# Altium footprint library urover.PCBLIB: 175 footprints (part 6 of 11)
Each footprint in its own frame and in the unit in brackets; x right, y up, seen from the top. Pads: shape width x height; smd on the part's side, far side on the other; paste and mask are expansions set on the pad; w line width, h text height; cw(c..) or ccw(c..) is an arc to the next point about the centre after c.
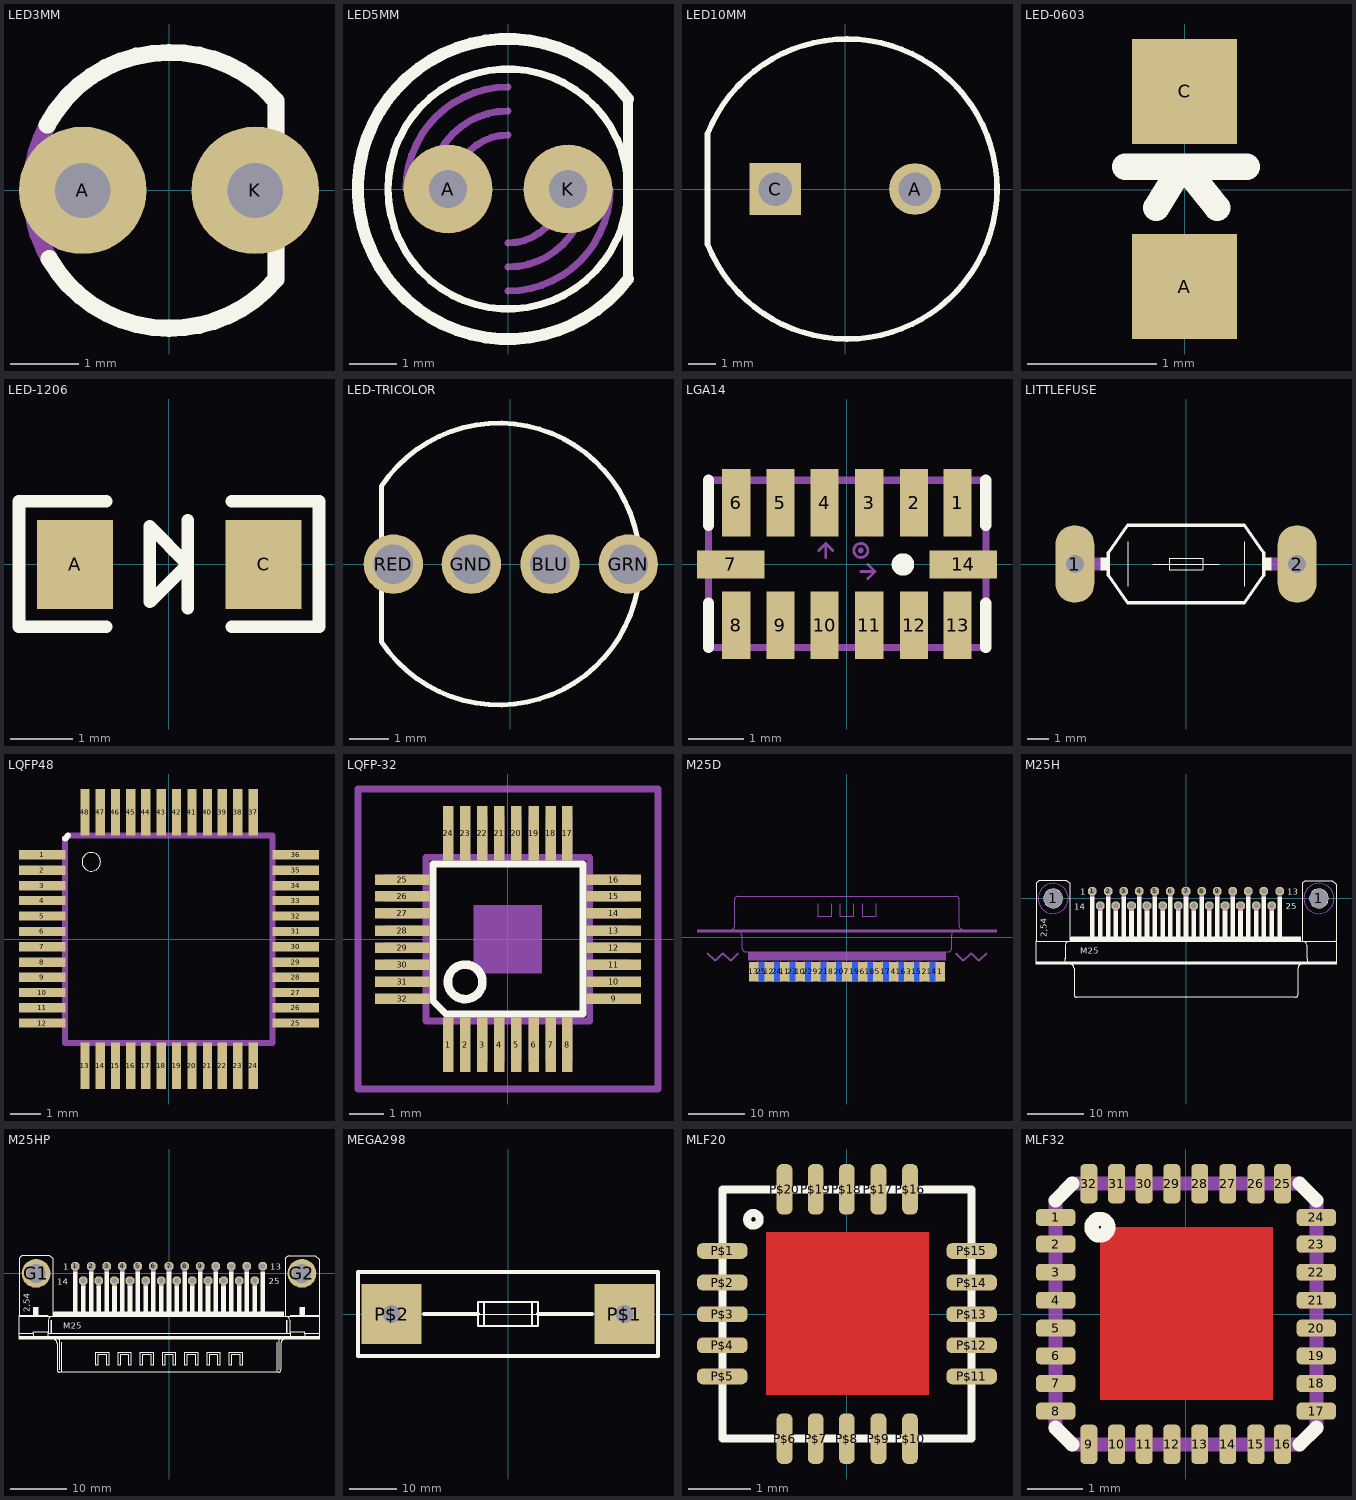
[diagram p5: the footprints below, top view; thin cyan lines are the x and y axes]

## LED3MM [mil]
pads (2):
  round 74 hole 32: A(-50,0) K(50,0)
Top Overlay:
  lines w10: -70.59,38 cw(c-0.29,0.18) 0,80 cw(c1.11,-0.19) 62,52 ; -69.46,-39.69 ccw(c0,0) 0,-80 ccw(c0.47,1) 62,-51.68 ; 62,-51 62,-33 ; 62,31 62,51
Mechanical 16:
  lines w10: -70.44,38 ccw(c0.14,0.04) -80,0 ccw(c0,0) -68.13,-41.93 ; 62,-50 62,50

## LED5MM [mil]
pads (2):
  round 74 hole 32: A(-50,0) K(50,0)
Top Overlay:
  circle w6: c0,0 r100
  lines w8: 100,-75 100,75
  lines w10: 100,-75 cw(c0,0) 100,75
Mechanical 16:
  lines w6: -85,0 cw(c0,0) 0,85 ; -65,0 cw(c0,0) 0,65 ; -45,0 cw(c0,0) 0,45 ; 0,-85 ccw(c0,0) 85,0 ; 0,-65 ccw(c0,0) 65,0 ; 0,-45 ccw(c0,0) 45,0

## LED10MM [mil]
pads (2):
  round 74 hole 48: A(100,0)
  rect 74x74 hole 48: C(-100,0)
Top Overlay:
  lines w8: -196.85,-78.74 ccw(c2.67,0.13) -196.85,79 -196.85,-78.74

## LED-0603 [mil]
pads (2):
  rect 32x32 smd: A(0,-29.53) C(0,30)
Top Overlay:
  lines w8: -18.11,7 0,7 ; -8.6,-5.51 -1,7 ; 10,-5.51 0,7 ; 19,7 0,7

## LED-1206 [mil]
pads (2):
  rect 48x56 smd: A(-59.06,0) C(60,0)
Top Overlay:
  lines w8: -39.37,-39.37 -94.49,-39.37 -94.49,40 -39.37,40 ; 12,-27.56 12,0 ; 12,28 12,0 ; 40,-39.37 95,-39.37 95,40 40,40 ; 12,0 -11.81,24 -11.81,-23.62 12,0

## LED-TRICOLOR [mil]
pads (4):
  round 60 hole 40: BLU(40,0) GND(-39.37,0) GRN(119,0) RED(-118.11,0)
Top Overlay:
  lines w5: -129.92,-78.74 -129.92,79 cw(c-11.62,0.13) -129.92,-78.74

## LGA14 [mil]
pads (14):
  rect 20x48 smd: 1(79,44) 2(48,44) 3(16,44) 4(-15.75,44) 5(-47.24,44) 6(-78.74,44) 8(-78.74,-43.31) 9(-47.24,-43.31) 10(-15.75,-43.31) 11(16,-43.31) 12(48,-43.31) 13(79,-43.31)
  rect 48x20 smd: 7(-82.68,0) 14(83,0)
Top Overlay:
  circle w8: c40,0 r4
  lines w8: -98.43,-59.06 -98.43,-27.56 ; -98.43,28 -98.43,60 ; 99,-59.06 99,-27.56 ; 99,28 99,60
Mechanical 16:
  circle w2: c10,10 r5
  circle w2: c10,10 r1
  lines w2: -20,10 -15,15 ; -15,5 -15,15 ; -10,10 -15,15 ; 10,-5 20,-5 ; 15,-10 20,-5 ; 15,0 20,-5
  lines w5: -98.43,-59.06 -98.43,60 99,60 99,-59.06 -98.43,-59.06
  text "X" at -5,-10 h18.6
  text "Y" at -20,-10 h18.6
  text "Z" at -5,5 h18.6

## LITTLEFUSE [mil]
pads (2):
  oval 70x140 hole 32: 1(-200,0) 2(200,0)
Top Overlay:
  rectangle: 140,-12 154,12
  rectangle: -154,-12 -140,12
  lines w2: -105,-40 -105,40 ; -60,0 60,0 ; 105,-40 105,40 ; -30,-10 -30,10 30,10 30,-10 -30,-10
  lines w6: -140,-20 -140,20 -105,70 105,70 140,20 140,-20 105,-70 -105,-70 -140,-20
Mechanical 16:
  lines w24: -200,0 -155,0 ; 155,0 200,0

## LQFP48 [mil]
pads (48):
  rect 60x12 smd: 1(-163.39,109) 2(-163.39,89) 3(-163.39,69) 4(-163.39,50) 5(-163.39,30) 6(-163.39,10) 7(-163.39,-9.84) 8(-163.39,-29.53) 9(-163.39,-49.21) 10(-163.39,-68.9) 11(-163.39,-88.58) 12(-163.39,-108.27) 25(164,-108.27) 26(164,-88.58) 27(164,-68.9) 28(164,-49.21) 29(164,-29.53) 30(164,-9.84) 31(164,10) 32(164,30) 33(164,50) 34(164,69) 35(164,89) 36(164,109)
  rect 12x60 smd: 13(-108.27,-163.39) 14(-88.58,-163.39) 15(-68.9,-163.39) 16(-49.21,-163.39) 17(-29.53,-163.39) 18(-9.84,-163.39) 19(10,-163.39) 20(30,-163.39) 21(50,-163.39) 22(69,-163.39) 23(89,-163.39) 24(109,-163.39) 37(109,164) 38(89,164) 39(69,164) 40(50,164) 41(30,164) 42(10,164) 43(-9.84,164) 44(-29.53,164) 45(-49.21,164) 46(-68.9,164) 47(-88.58,164) 48(-108.27,164)
Top Overlay:
  circle w0: c-100,100 r12
  lines w8: -133.8,130 -129.92,134
Mechanical 16:
  rectangle: -177.17,104 -137.8,113
  rectangle: -177.17,85 -137.8,93
  rectangle: -177.17,65 -137.8,74
  rectangle: -177.17,45 -137.8,54
  rectangle: -177.17,26 -137.8,34
  rectangle: -177.17,6 -137.8,15
  rectangle: -177.17,-14.17 -137.8,-5.51
  rectangle: -177.17,-33.86 -137.8,-25.2
  rectangle: -177.17,-53.54 -137.8,-44.88
  rectangle: -177.17,-73.23 -137.8,-64.57
  rectangle: -177.17,-92.91 -137.8,-84.25
  rectangle: -177.17,-112.6 -137.8,-103.94
  rectangle: -112.6,-177.17 -103.94,-137.8
  rectangle: -92.91,-177.17 -84.25,-137.8
  rectangle: -73.23,-177.17 -64.57,-137.8
  rectangle: -53.54,-177.17 -44.88,-137.8
  rectangle: -33.86,-177.17 -25.2,-137.8
  rectangle: -14.17,-177.17 -5.51,-137.8
  rectangle: 6,-177.17 15,-137.8
  rectangle: 26,-177.17 34,-137.8
  rectangle: 45,-177.17 54,-137.8
  rectangle: 65,-177.17 74,-137.8
  rectangle: 85,-177.17 93,-137.8
  rectangle: 104,-177.17 113,-137.8
  rectangle: 138,-112.6 178,-103.94
  rectangle: 138,-92.91 178,-84.25
  rectangle: 138,-73.23 178,-64.57
  rectangle: 138,-53.54 178,-44.88
  rectangle: 138,-33.86 178,-25.2
  rectangle: 138,-14.17 178,-5.51
  rectangle: 138,6 178,15
  rectangle: 138,26 178,34
  rectangle: 138,45 178,54
  rectangle: 138,65 178,74
  rectangle: 138,85 178,93
  rectangle: 138,104 178,113
  rectangle: 104,138 113,178
  rectangle: 85,138 93,178
  rectangle: 65,138 74,178
  rectangle: 45,138 54,178
  rectangle: 26,138 34,178
  rectangle: 6,138 15,178
  rectangle: -14.17,138 -5.51,178
  rectangle: -33.86,138 -25.2,178
  rectangle: -53.54,138 -44.88,178
  rectangle: -73.23,138 -64.57,178
  rectangle: -92.91,138 -84.25,178
  rectangle: -112.6,138 -103.94,178
  lines w8: -133.8,130 -133.8,-133.8 134,-133.8 134,134 -129.92,134

## LQFP-32 [mil]
pads (32):
  rect 12x63 smd: 1(-68.9,-122.05) 2(-49.21,-122.05) 3(-29.53,-122.05) 4(-9.84,-122.05) 5(10,-122.05) 6(30,-122.05) 7(50,-122.05) 8(69,-122.05) 17(69,123) 18(50,123) 19(30,123) 20(10,123) 21(-9.84,123) 22(-29.53,123) 23(-49.21,123) 24(-68.9,123)
  rect 63x12 smd: 9(123,-68.9) 10(123,-49.21) 11(123,-29.53) 12(123,-9.84) 13(123,10) 14(123,30) 15(123,50) 16(123,69) 25(-122.05,69) 26(-122.05,50) 27(-122.05,30) 28(-122.05,10) 29(-122.05,-9.84) 30(-122.05,-29.53) 31(-122.05,-49.21) 32(-122.05,-68.9)
Top Overlay:
  circle w10: c-49.21,-49.21 r20
  lines w8: -86.61,-71.39 -86.61,87 87,87 87,-86.61 -71.61,-86.61 -86.61,-71.39
Mechanical 6:
  rectangle: -39.37,-39.37 40,40
Mechanical 16:
  rectangle: -74.8,-141.73 -62.99,-96.46
  rectangle: -55.12,-141.73 -43.31,-96.46
  rectangle: -35.43,-141.73 -23.62,-96.46
  rectangle: -15.75,-141.73 -3.94,-96.46
  rectangle: 4,-141.73 16,-96.46
  rectangle: 24,-141.73 36,-96.46
  rectangle: 44,-141.73 56,-96.46
  rectangle: 63,-141.73 75,-96.46
  rectangle: 97,-74.8 142,-62.99
  rectangle: 97,-55.12 142,-43.31
  rectangle: 97,-35.43 142,-23.62
  rectangle: 97,-15.75 142,-3.94
  rectangle: 97,4 142,16
  rectangle: 97,24 142,36
  rectangle: 97,44 142,56
  rectangle: 97,63 142,75
  rectangle: 63,97 75,142
  rectangle: 44,97 56,142
  rectangle: 24,97 36,142
  rectangle: 4,97 16,142
  rectangle: -15.75,97 -3.94,142
  rectangle: -35.43,97 -23.62,142
  rectangle: -55.12,97 -43.31,142
  rectangle: -74.8,97 -62.99,142
  rectangle: -141.73,63 -96.46,75
  rectangle: -141.73,44 -96.46,56
  rectangle: -141.73,24 -96.46,36
  rectangle: -141.73,4 -96.46,16
  rectangle: -141.73,-15.75 -96.46,-3.94
  rectangle: -141.73,-35.43 -96.46,-23.62
  rectangle: -141.73,-55.12 -96.46,-43.31
  rectangle: -141.73,-74.8 -96.46,-62.99
  lines w8: -94.49,-94.49 95,-94.49 95,95 -94.49,95 -94.49,-94.49
Mechanical 27:
  lines w8: -173.23,-173.23 -173.23,174 174,174 174,-173.23 -173.23,-173.23

## M25D [mil]
pads (25):
  rect 67x138 smd: 1(649,-237.98) 2(540,-237.99) 3(432,-237.98) 4(325,-237.98) 5(216,-237.98) 6(109,-237.98) 7(0,-237.99) 8(-108.01,-237.98) 9(-215.99,-237.98) 10(-324.01,-237.98) 11(-431.99,-237.98) 12(-540,-237.99) 13(-648.01,-237.98)
  rect 67x138 smd far side: 14(594,-238) 15(486,-238) 16(378,-238) 17(270,-238) 18(162,-238) 19(54,-238) 20(-54,-238) 21(-162,-238) 22(-270,-238) 23(-378,-238) 24(-486,-238) 25(-594,-238)
Mechanical 16:
  rectangle: -1043.31,36 1044,56
  rectangle: -688.98,-161.42 689,-98.43
  lines w6: -805,56 ccw(c-805,81) -780,81 -780,266 cw(c-760,266) -760,286 760,286 cw(c760,266) 780,266 780,81 ccw(c805,81) 805,56 ; -734,40 -734,20 -729,20 -729,-75 ccw(c-704,-75) -704,-100 ; -704.76,-100 705,-100 ; -200,235 -200,145 -110,145 -110,235 ; -45,235 -45,145 45,145 45,235 ; 110,235 110,145 200,145 200,235 ; 704,-100 ccw(c704,-75) 729,-75 729,20 734,20 734,40
  text "1" at 631,-85.77 h42.5
  text "13" at -663.8,-85.77 h42.5
  text "M25D" at -678,181 h42.5
Mechanical 30:
  lines w10: -972,-108 -918,-162 -864,-108 -810,-162 -756,-108 ; 756,-108 810,-162 864,-108 918,-162 972,-108
  text "Board" at 774,-100 h42.5
  text "25" at -577.19,-32.48 h42.5
  text "14" at 616,-32.48 h42.5
  text "Board" at -974,-100 h42.5

## M25H [mil]
pads (27):
  round 130 hole 130: 1(-926,0) 1(926,0)
  oct 60x60 hole 40: 1(-652,50) 2(-543,50) 3(-435,50) 4(-326,50) 5(-217,50) 6(-109,50) 7(0,50) 8(109,50) 9(217,50) 10(326,50) 11(435,50) 12(543,50) 13(652,50) 14(-598,-50) 15(-489,-50) 16(-380,-50) 17(-272,-50) 18(-163,-50) 19(-54,-50) 20(54,-50) 21(163,-50) 22(272,-50) 23(380,-50) 24(489,-50) 25(598,-50)
Top Overlay:
  circle w6: c926,0 r65
  circle w6: c-926,0 r65
  rectangle: -1045,-460 1045,-440
  rectangle: -800,-300 800,-270
  rectangle: -668,-270 -636,15
  rectangle: -614,-270 -582,-85
  rectangle: -559,-270 -527,15
  rectangle: -505,-270 -473,-85
  rectangle: -451,-270 -419,15
  rectangle: -396,-270 -364,-85
  rectangle: -342,-270 -310,15
  rectangle: -288,-270 -256,-85
  rectangle: -233,-270 -201,15
  rectangle: -179,-270 -147,-85
  rectangle: -125,-270 -93,15
  rectangle: -70,-270 -38,-85
  rectangle: -16,-270 16,15
  rectangle: 38,-270 70,-85
  rectangle: 93,-270 125,15
  rectangle: 147,-270 179,-85
  rectangle: 201,-270 233,15
  rectangle: 256,-270 288,-85
  rectangle: 310,-270 342,15
  rectangle: 364,-270 396,-85
  rectangle: 419,-270 451,15
  rectangle: 473,-270 505,-85
  rectangle: 527,-270 559,15
  rectangle: 582,-270 614,-85
  rectangle: 636,-270 668,15
  lines w6: -845,-440 -845,-420 -840,-420 -840,-325 cw(c-815,-325) -815,-300 ; -805,-460 cw(c-805,-485) -780,-485 -780,-670 ccw(c-760,-670) -760,-690 -750,-690 750,-690 760,-690 ccw(c760,-670) 780,-670 780,-485 cw(c805,-485) 805,-460 ; 815,-300 cw(c815,-325) 840,-325 840,-420 845,-420 845,-440 ; -1045,-300 -1045,-420 -1045,-440 -1045,-460 -765,-460 765,-460 1045,-460 1045,-440 1045,-420 1045,-300 ; -1045,-300 -1045,-295 -1045,105 -1025,125 -830,125 -810,105 -810,-300 ; -1045,-300 -845,-300 -810,-300 ; -810,-300 -800,-300 ; -800,-300 800,-300 ; -800,-300 -800,-270 800,-270 800,-300 ; 800,-300 810,-300 ; 810,-300 845,-300 1045,-300 ; 810,-300 810,105 830,125 1020,125 1045,100 1045,-295 1045,-300
  text "1" at -735,25 h42.5
  text "13" at 705,25 h42.5
  text "14" at -780,-80 h42.5
  text "25" at 695,-75 h42.5
  text "2,54" at -970,-270 h42.5
  text "M25" at -735,-385 h42.5
Mechanical 9:
  circle w0: c926,0 r105
  circle w0: c-926,0 r105
Mechanical 10:
  circle w0: c926,0 r105
  circle w0: c-926,0 r105
Mechanical 16:
  lines w6: 652,5 652,45
  lines w32: -652,5 -652,45 ; -598,-94 -598,-54 ; -543,5 -543,45 ; -489,-94 -489,-54 ; -435,5 -435,45 ; -380,-94 -380,-54 ; -326,5 -326,45 ; -272,-95 -272,-55 ; -217,5 -217,45 ; -163,-95 -163,-55 ; -109,5 -109,45 ; -54,-95 -54,-55 ; 0,5 0,45 ; 54,-95 54,-55 ; 109,5 109,45 ; 163,-95 163,-55 ; 217,5 217,45 ; 272,-95 272,-55 ; 326,5 326,45 ; 380,-95 380,-55 ; 435,5 435,45 ; 489,-95 489,-55 ; 543,5 543,45 ; 598,-95 598,-55

## M25HP [mil]
pads (27):
  oct 60x60 hole 40: 1(-652,50) 2(-543,50) 3(-435,50) 4(-326,50) 5(-217,50) 6(-109,50) 7(0,50) 8(109,50) 9(217,50) 10(326,50) 11(435,50) 12(543,50) 13(652,50) 14(-598,-50) 15(-489,-50) 16(-380,-50) 17(-272,-50) 18(-163,-50) 19(-54,-50) 20(54,-50) 21(163,-50) 22(272,-50) 23(380,-50) 24(489,-50) 25(598,-50)
  round 200 hole 130: G1(-926,0) G2(926,0)
Top Overlay:
  drawing of 161 lines, arcs and shapes, not listed
  text "1" at -735,25 h42.5
  text "13" at 705,25 h42.5
  text "14" at -780,-80 h42.5
  text "25" at 695,-75 h42.5
  text "2,54" at -970,-270 h42.5
  text "M25" at -735,-385 h42.5
Mechanical 16:
  lines w6: 652,5 652,45
  lines w32: -652,5 -652,45 ; -598,-94 -598,-54 ; -543,5 -543,45 ; -489,-94 -489,-54 ; -435,5 -435,45 ; -380,-94 -380,-54 ; -326,5 -326,45 ; -272,-95 -272,-55 ; -217,5 -217,45 ; -163,-95 -163,-55 ; -109,5 -109,45 ; -54,-95 -54,-55 ; 0,5 0,45 ; 54,-95 54,-55 ; 109,5 109,45 ; 163,-95 163,-55 ; 217,5 217,45 ; 272,-95 272,-55 ; 326,5 326,45 ; 380,-95 380,-55 ; 435,5 435,45 ; 489,-95 489,-55 ; 543,5 543,45 ; 598,-95 598,-55

## MEGA298 [mil]
pads (2):
  rect 500x500 hole 152: P$1(970,0) P$2(-970,0)
Top Overlay:
  lines w5: -250,0 250,0
  lines w16: -200,-100 -200,100 ; -200,-100 200,-100 ; -200,-100 -250,-100 -250,0 -250,100 -200,100 ; -200,100 200,100 ; 200,-100 200,100 ; 200,-100 250,-100 250,0 250,100 200,100
  lines w32: -700,0 -250,0 ; 250,0 700,0 ; -1250,-350 -1250,350 1250,350 1250,-350 -1250,-350

## MLF20 [mil]
pads (20):
  rrect75% 32x10 smd: P$1(-78.74,40) P$2(-78.74,20) P$3(-78.74,0) P$4(-78.74,-19.68) P$5(-78.74,-39.37) P$11(79,-39.37) P$12(79,-19.68) P$13(79,0) P$14(79,20) P$15(79,40)
  rrect75% 10x32 smd: P$6(-39.37,-78.74) P$7(-19.68,-78.74) P$8(0,-78.74) P$9(20,-78.74) P$10(40,-78.74) P$16(40,79) P$17(20,79) P$18(0,79) P$19(-19.68,79) P$20(-39.37,79)
Top Layer:
  rectangle: -51.18,-51.18 52,52
Top Overlay:
  circle w5: c-59.06,60 r4
  lines w5: -78.74,-78.74 79,-78.74 79,79 -78.74,79 -78.74,-78.74

## MLF32 [mil]
pads (32):
  rrect50% 28x12 smd: 1(-92.52,69) 2(-92.52,50) 3(-92.52,30) 4(-92.52,10) 5(-92.52,-9.84) 6(-92.52,-29.53) 7(-92.52,-49.21) 8(-92.52,-68.9) 17(93,-68.9) 18(93,-49.21) 19(93,-29.53) 20(93,-9.84) 21(93,10) 22(93,30) 23(93,50) 24(93,69)
  rrect50% 12x28 smd: 9(-68.9,-92.52) 10(-49.21,-92.52) 11(-29.53,-92.52) 12(-9.84,-92.52) 13(10,-92.52) 14(30,-92.52) 15(50,-92.52) 16(69,-92.52) 25(69,93) 26(50,93) 27(30,93) 28(10,93) 29(-9.84,93) 30(-29.53,93) 31(-49.21,93) 32(-68.9,93)
Top Layer:
  rectangle: -61.02,-61.02 62,62
Top Overlay:
  circle w10: c-61.02,62 r6
  lines w10: -92.52,-80.71 -80.71,-92.52 ; -92.52,81 -80.71,93 ; 81,-92.52 93,-80.71 ; 81,93 93,81
Mechanical 16:
  rectangle: -98.43,63 -80.71,75
  rectangle: -98.43,44 -80.71,56
  rectangle: -98.43,24 -80.71,36
  rectangle: -98.43,4 -80.71,16
  rectangle: -98.43,-15.75 -80.71,-3.94
  rectangle: -98.43,-35.43 -80.71,-23.62
  rectangle: -98.43,-55.12 -80.71,-43.31
  rectangle: -98.43,-74.8 -80.71,-62.99
  rectangle: -74.8,-98.43 -62.99,-80.71
  rectangle: -55.12,-98.43 -43.31,-80.71
  rectangle: -35.43,-98.43 -23.62,-80.71
  rectangle: -15.75,-98.43 -3.94,-80.71
  rectangle: 4,-98.43 16,-80.71
  rectangle: 24,-98.43 36,-80.71
  rectangle: 44,-98.43 56,-80.71
  rectangle: 63,-98.43 75,-80.71
  rectangle: 81,-74.8 99,-62.99
  rectangle: 81,-55.12 99,-43.31
  rectangle: 81,-35.43 99,-23.62
  rectangle: 81,-15.75 99,-3.94
  rectangle: 81,4 99,16
  rectangle: 81,24 99,36
  rectangle: 81,44 99,56
  rectangle: 81,63 99,75
  rectangle: 63,81 75,99
  rectangle: 44,81 56,99
  rectangle: 24,81 36,99
  rectangle: 4,81 16,99
  rectangle: -15.75,81 -3.94,99
  rectangle: -35.43,81 -23.62,99
  rectangle: -55.12,81 -43.31,99
  rectangle: -74.8,81 -62.99,99
  lines w10: -92.52,-80.71 -92.52,81 ; -80.71,-92.52 81,-92.52 ; -80.71,93 81,93 ; 93,-80.71 93,81